# Altium schematic symbol library MCSJK-7I-8.00-18-30-60-B-30.SchLib: 1 symbol
Pins are listed as number, name and electrical type; pins without a type are passive.

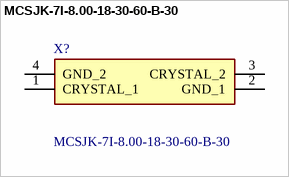
[diagram p0: symbol MCSJK-7I-8.00-18-30-60-B-30]

## MCSJK-7I-8.00-18-30-60-B-30
designator X?
MULTICOMP PRO - MCSJK-7I-8.00-18-30-60-B-30 - Crystal, 8 MHz, SMD, 5mm x 3.2mm, 30 ppm, 18 pF, 30 ppm; Geometry.Height: 1.05mm; Manufacturer_Name: Multicomp Pro; Manufacturer_Part_Number: MCSJK-7I-8.00-18-30-60-B-30; Mouser Part Number: *; Mouser Price/Stock: *; Arrow Part Number: *; Arrow Price/Stock: *; Datasheet Link: https://www.farnell.com/datasheets/2864167.pdf
footprint MCSJK7I800183060B30
pins: 1 CRYSTAL_1, 2 GND_1, 3 CRYSTAL_2, 4 GND_2